# Altium schematic symbol library MM32F327xG8P_CoreBoard.SchLib: 1 symbol
Pins are listed as number, name and electrical type; pins without a type are passive.

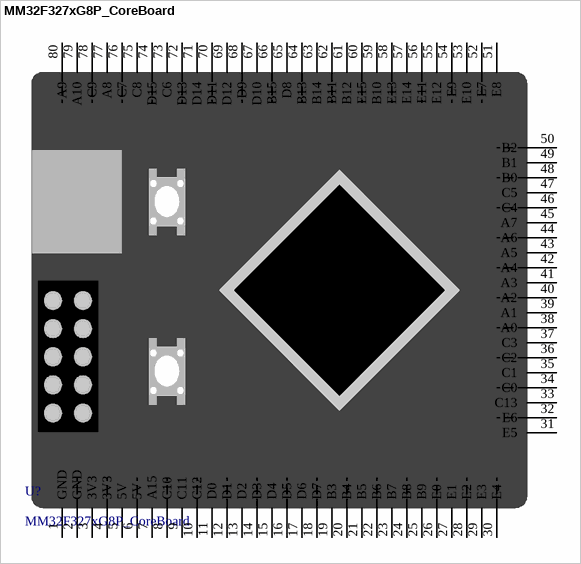
[diagram p0: symbol MM32F327xG8P_CoreBoard]

## MM32F327xG8P_CoreBoard
designator U?
footprint MM32F327xG8P_CoreBoard (逐飞科技MM32F327xG8P核心板)
pins: 1 GND, 2 GND, 3 3V3, 4 3V3, 5 5V, 6 5V, 7 A15, 8 C10, 9 C11, 10 C12, 11 D0, 12 D1, 13 D2, 14 D3, 15 D4, 16 D5, 17 D6, 18 D7, 19 B3, 20 B4, 21 B5, 22 B6, 23 B7, 24 B8, 25 B9, 26 E0, 27 E1, 28 E2, 29 E3, 30 E4, 31 E5, 32 E6, 33 C13, 34 C0, 35 C1, 36 C2, 37 C3, 38 A0, 39 A1, 40 A2, 41 A3, 42 A4, 43 A5, 44 A6, 45 A7, 46 C4, 47 C5, 48 B0, 49 B1, 50 B2, 51 E8, 52 E7, 53 E10, 54 E9, 55 E12, 56 E11, 57 E14, 58 E13, 59 B10, 60 E15, 61 B12, 62 B11, 63 B14, 64 B13, 65 D8, 66 B15, 67 D10, 68 D9, 69 D12, 70 D11, 71 D14, 72 D13, 73 C6, 74 D15, 75 C8, 76 C7, 77 A8, 78 C9, 79 A10, 80 A9